# Altium footprint library Lib Marius.PcbLib: 393 footprints (part 8 of 25)
Each footprint in its own frame and in the unit in brackets; x right, y up, seen from the top. Pads: shape width x height; smd on the part's side, far side on the other; paste and mask are expansions set on the pad; w line width, h text height; cw(c..) or ccw(c..) is an arc to the next point about the centre after c.
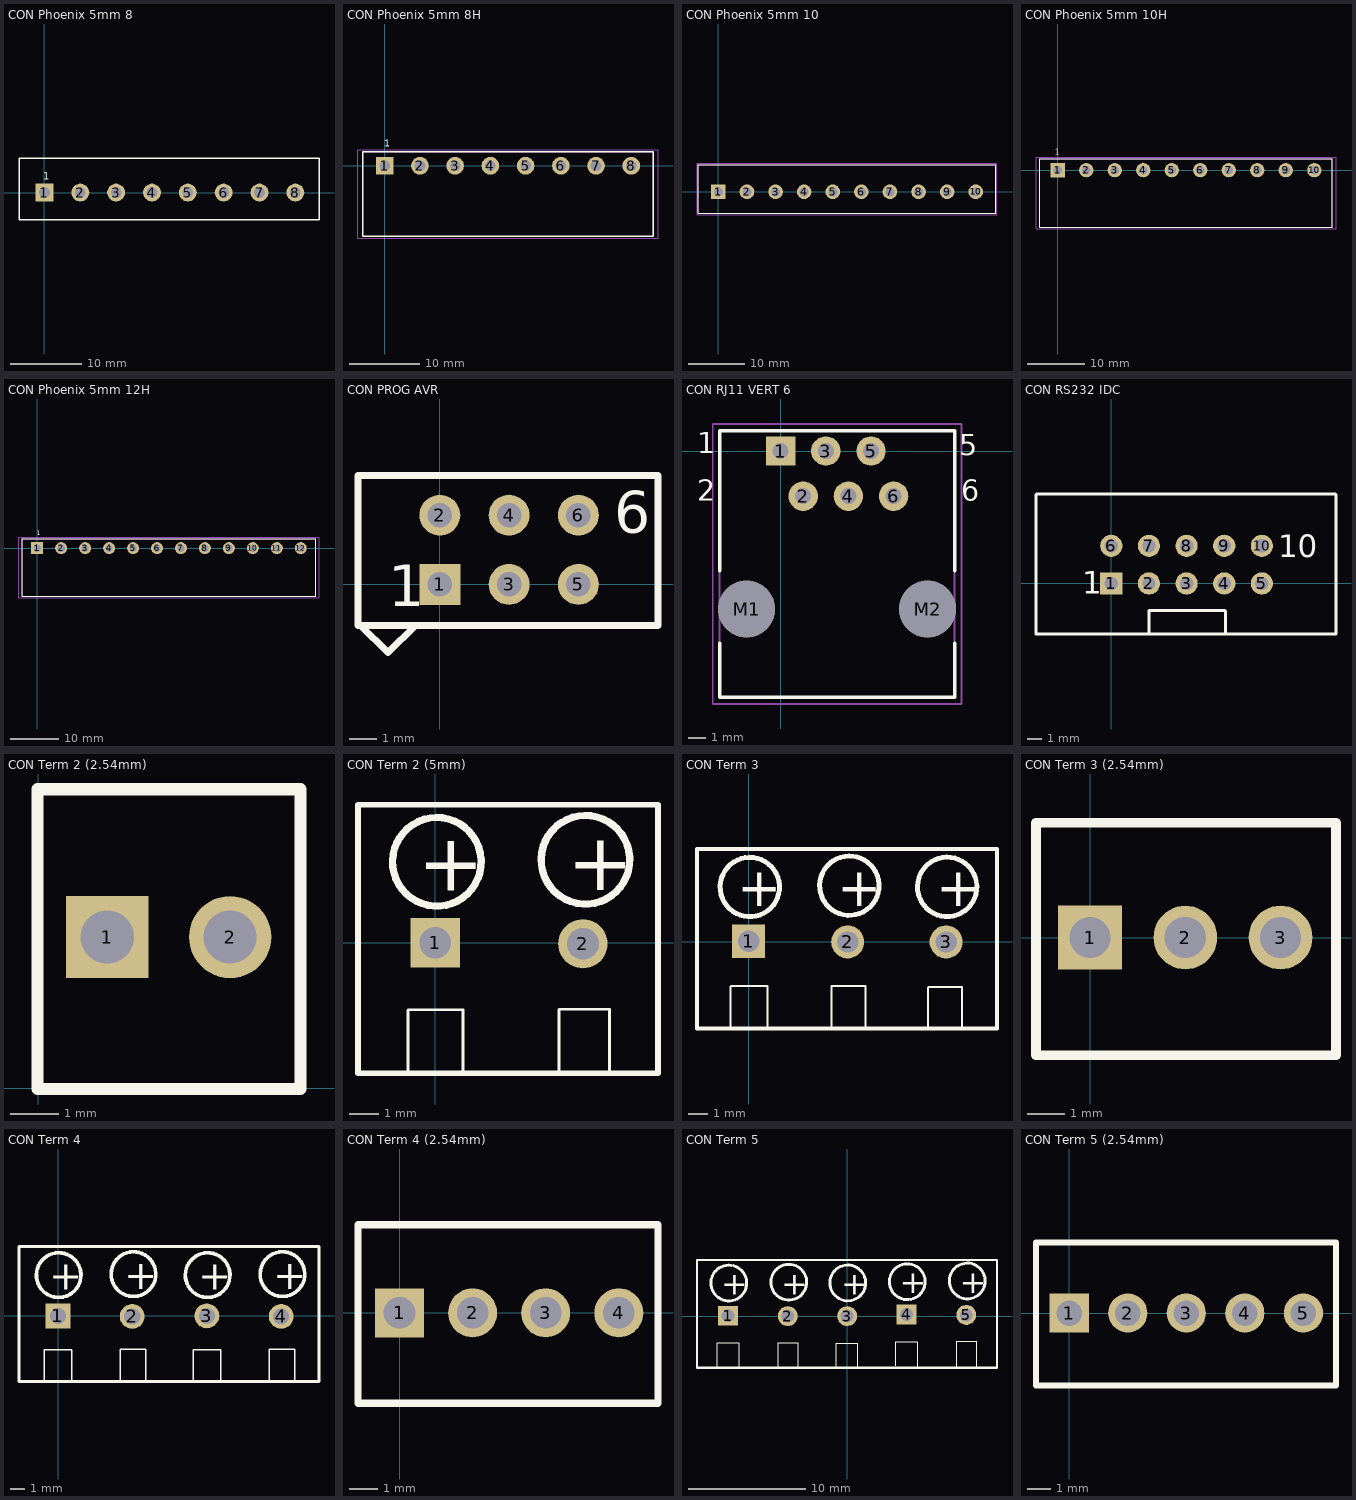
[diagram p7: the footprints below, top view; thin cyan lines are the x and y axes]

## CON Phoenix 5mm 8 [mm] "Connector, Header, 8way, 5mm pitch"
height 8.6
pads (8):
  rect 2.5x2.5 hole 1.5: 1(0,0)
  round 2.5 hole 1.5: 2(5,0) 3(10,0) 4(15,0) 5(20,0) 6(25,0) 7(30,0) 8(35,0)
Top Overlay:
  lines w0.2: -3.55,-3.8 -3.55,4.8 38.3,4.8 38.3,-3.8 -3.55,-3.8
  text "1" at -0.2,1.8 h1
Bottom Overlay:
  text "1" at -0.2,1.8 h1

## CON Phoenix 5mm 8H [mm] "Connector, Header, Right angle, 8way, 5mm pitch"
height 8.6
pads (8):
  rect 2.5x2.5 hole 1.5: 1(0,0)
  round 2.5 hole 1.5: 2(5,0) 3(10,0) 4(15,0) 5(20,0) 6(25,0) 7(30,0) 8(35,0)
Top Overlay:
  lines w0.2: -3.1,-10 -3.1,2 38.1,2 38.1,-10 -3.1,-10
  text ".Designator" at 4.4,3.3 h1.5
  text "1" at -0.1,2.7 h1
Bottom Overlay:
  text "1" at -1.4,2.7 h1
Mechanical 13:
  lines w0.1: -3.1,-10 38.1,-10 38.1,2 -3.1,2 -3.1,-10
Mechanical 15:
  lines w0.1: -3.8,-10.3 38.8,-10.3 38.8,2.3 -3.8,2.3 -3.8,-10.3
3D body "Camden_CTB9350_8A.stp": height 8.6, standoff -3.5, extent -3.5,-10 38.5,2

## CON Phoenix 5mm 10 [mm] "Connector, Header, Pluggable, 10WAY VERT BOX 5.08MM"
height 12.1
pads (10):
  rect 2.6x2.6 hole 1.6: 1(0,0)
  round 2.6 hole 1.6: 2(5.08,0) 3(10.16,0) 4(15.24,0) 5(20.32,0) 6(25.4,0) 7(30.48,0) 8(35.56,0) 9(40.64,0) 10(45.72,0)
Top Overlay:
  lines w0.2: -3.55,-3.8 49.25,-3.8 49.25,4.8 -3.55,4.8 -3.55,-3.8
  text ".Designator" at -1.325,5.6 h1.5
Mechanical 13:
  lines w0.1: -3.55,-3.8 49.25,-3.8 49.25,4.8 -3.55,4.8 -3.55,-3.8
Mechanical 15:
  lines w0.1: -3.8,-4.1 49.5,-4.1 49.5,5.1 -3.8,5.1 -3.8,-4.1
3D body "1755817.stp": height 12, standoff -3.9, extent -3.55,-3.8 49.25,4.8

## CON Phoenix 5mm 10H [mm] "Connector, Header, Right angle, 12way, 5mm pitch"
height 8.6
pads (10):
  rect 2.5x2.5 hole 1.5: 1(0,0)
  round 2.5 hole 1.5: 2(5,0) 3(10,0) 4(15,0) 5(20,0) 6(25,0) 7(30,0) 8(35,0) 9(40,0) 10(45,0)
Top Overlay:
  lines w0.2: -3.1,-10 -3.1,2 48.1,2 48.1,-10 -3.1,-10
  text ".Designator" at 4.7,3.6 h1.5
  text "1" at -0.5,2.7 h1
Bottom Overlay:
  text "1" at -0.5,2.7 h1
Mechanical 13:
  lines w0.1: -3.1,-10 48.1,-10 48.1,2 -3.1,2 -3.1,-10
Mechanical 15:
  lines w0.1: -3.8,-10.3 48.8,-10.3 48.8,2.3 -3.8,2.3 -3.8,-10.3
3D body "Camden_CTB9350_10A.stp": height 8.6, standoff -3.5, extent -3.5,-10 48.5,2

## CON Phoenix 5mm 12H [mm] "Connector, Header, Right angle, 12way, 5mm pitch"
height 8.6
pads (12):
  rect 2.5x2.5 hole 1.5: 1(0,0)
  round 2.5 hole 1.5: 2(5,0) 3(10,0) 4(15,0) 5(20,0) 6(25,0) 7(30,0) 8(35,0) 9(40,0) 10(45,0) 11(50,0) 12(55,0)
Top Overlay:
  lines w0.2: -3.1,-10 -3.1,2 58.1,2 58.1,-10 -3.1,-10
  text ".Designator" at 4.4,3.3 h1.5
  text "1" at -0.1,2.7 h1
Bottom Overlay:
  text "1" at -1.4,2.7 h1
Mechanical 13:
  lines w0.1: -3.1,-10 58.1,-10 58.1,2 -3.1,2 -3.1,-10
Mechanical 15:
  lines w0.1: -3.8,-10.3 58.8,-10.3 58.8,2.3 -3.8,2.3 -3.8,-10.3
3D body "Camden_CTB9350_12A.stp": height 8.6, standoff -3.5, extent -3.5,-10 58.5,2

## CON PROG AVR [mm] "Programming Connector"
pads (6):
  rect 1.5x1.5 hole 0.9: 1(0,0)
  round 1.5 hole 0.9: 2(0,2.54) 3(2.54,0) 4(2.54,2.54) 5(5.08,0) 6(5.08,2.54)
Top Overlay:
  lines w0.254: -0.9,-1.5 -1.9,-2.5 ; -3,-1.5 8,-1.5 8,4 -3,4 -3,-1.5 ; -3,-1.5 -2.9,-1.5 -1.9,-2.5 ; -1.9,-2.5 -1.9,-2.5
  text "6" at 6.4,1.9 h1.52
  text "1" at -1.9,-0.8 h1.52
Bottom Overlay:
  text "2" at -1.2,2 h1.27
  text "1" at -1.5,-0.6 h1.27
  text "6" at 7.1,2 h1.27
  text "5" at 7.1,-0.7 h1.27

## CON RJ11 VERT 6 [mil] "Connector, Header, Vertical: Lead Span 2.54mm; Lead Width 0.52; Pin Pitch 2.54; 2x3 Pins"
height 550
pads (8):
  rect 65x65 hole 35.43: 1(0,0)
  round 65 hole 35.43: 2(50,-100) 3(100,0) 4(150,-100) 5(200,0) 6(250,-100)
  round 125 hole 125.98 unplated: M1(-75,-350) M2(325,-350)
Top Overlay:
  lines w7.87: -135,-425 -135,-545 385,-545 385,-425 ; -135,-265 -135,45 385,45 385,-265
  text "5" at 395,-25 h78.74
  text "6" at 400,-125 h78.74
  text "2" at -185,-125 h78.74
  text "1" at -185,-20 h78.74
  text ".Designator" at -75,80 h39.37
Mechanical 13:
  lines w3.94: -135,-545 385,-545 385,45 -135,45 -135,-545
  text "1" at -75,-25 h78.74
Mechanical 15:
  lines w3.94: -150,-560 400,-560 400,60 -150,60 -150,-560
3D body "955032661.stp": height 619.05, standoff -128.98, extent -133.86,-539.37 386.22,54.33

## CON RS232 IDC [mm] "Connector; IDC; 5x2 Position"
pads (10):
  rect 1.5x1.5 hole 0.9: 1(0,0)
  round 1.5 hole 0.9: 2(2.54,0) 3(5.08,0) 4(7.62,0) 5(10.16,0) 6(0,2.54) 7(2.54,2.54) 8(5.08,2.54) 9(7.62,2.54) 10(10.16,2.54)
Top Overlay:
  lines w0.2: -5.073,5.991 -5.073,-3.398 15.162,-3.398 15.162,5.991 15.125,6.027 -5.036,6.027 ; 2.534,-3.398 2.534,-1.834 7.665,-1.834 7.701,-1.87 7.701,-3.362 7.738,-3.398 ; -5.036,6.027 -5.081,5.983 -5.036,6.027
  text "1" at -1.956,-0.706 h1.52
  text "10" at 11.269,1.777 h1.52
Bottom Overlay:
  text "1" at -1.601,-0.588 h1.27
  text "6" at -1.297,2.047 h1.27
  text "10" at 13.261,1.895 h1.27
  text "5" at 12.265,-0.672 h1.27
3D body "IDC-5x2.step": height 8.65, standoff -3.54, extent -5.106,-3.444 15.214,6.03

## CON Term 2 (2.54mm) [mm] "Terminal Block, 2 pin, 2.54mm"
pads (2):
  rect 1.7x1.7 hole 1.1: 1(1.426,3.119)
  round 1.7 hole 1.1: 2(3.966,3.119)
Top Overlay:
  lines w0.254: -0.018,6.179 -0.018,-0.021 5.422,-0.021 5.422,6.176 0.002,6.176

## CON Term 2 (5mm) [mm] "Terminal Block, 2 pin, 5.08mm"
pads (2):
  rect 1.7x1.7 hole 1.1: 1(-0.009,0.003)
  round 1.7 hole 1.1: 2(5.082,-0.033)
Top Overlay:
  lines w0.1: -0.952,-4.387 -0.952,-2.327 -0.931,-2.306 0.955,-2.306 0.955,-4.422 ; 4.254,-4.405 4.254,-2.306 4.271,-2.289 5.993,-2.289 5.993,-4.458
  lines w0.2: -2.671,-4.492 -2.671,4.757 7.67,4.757 7.67,-4.492 -2.671,-4.492
  lines w0.254: 1.572,2.884 ccw(c0.047,2.794) 1.573,2.842 ; 6.694,2.953 ccw(c5.169,2.863) 6.696,2.912
  text "+" at 4.535,1.812 h2
  text "+" at -0.611,1.801 h2
3D body "PCB Term 2Way.stp": height 13.8, standoff -3.5, extent -2.87,-4.7 7.87,5.1

## CON Term 3 [mm] "Terminal Block, 3 pin, 5.08mm"
pads (3):
  rect 1.7x1.7 hole 1.1: 1(0,0.036)
  round 1.7 hole 1.1: 2(5.091,0) 3(10.16,0)
Top Overlay:
  lines w0.1: -0.942,-4.354 -0.942,-2.295 -0.921,-2.274 0.965,-2.274 0.965,-4.39 ; 4.263,-4.372 4.263,-2.274 4.281,-2.256 6.003,-2.256 6.003,-4.425 ; 9.236,-4.433 9.236,-2.335 9.254,-2.317 10.976,-2.317 10.976,-4.486
  lines w0.2: -2.662,-4.459 -2.662,4.79 12.778,4.79 12.778,-4.459 -2.662,-4.459
  lines w0.254: 1.581,2.916 ccw(c0.056,2.827) 1.583,2.875 ; 6.703,2.986 ccw(c5.179,2.896) 6.705,2.944 ; 11.738,2.925 ccw(c10.213,2.835) 11.739,2.883
  text "+" at 4.544,1.845 h2
  text "+" at -0.601,1.833 h2
  text "+" at 9.639,1.845 h2
3D body "PCB Term 3Way.stp": height 13.8, standoff -3.5, extent -2.871,-4.7 12.871,5.1

## CON Term 3 (2.54mm) [mm] "Terminal Block, 3 pin, 2.54mm"
pads (3):
  rect 1.7x1.7 hole 1.1: 1(0,0)
  round 1.7 hole 1.1: 2(2.54,0) 3(5.08,0)
Top Overlay:
  lines w0.254: -1.443,3.06 -1.443,-3.14 6.557,-3.14 6.557,3.06 ; -1.424,3.057 6.555,3.057

## CON Term 4 [mm] "Terminal Block, 4 pin, 5.08mm"
pads (4):
  rect 1.7x1.7 hole 1.1: 1(-0.009,0.003)
  round 1.7 hole 1.1: 2(5.082,-0.033) 3(10.191,0.003) 4(15.282,-0.033)
Top Overlay:
  lines w0.1: -0.952,-4.387 -0.952,-2.327 -0.931,-2.306 0.955,-2.306 0.955,-4.422 ; 4.254,-4.405 4.254,-2.306 4.271,-2.289 5.993,-2.289 5.993,-4.458 ; 9.248,-4.387 9.248,-2.327 9.269,-2.306 11.155,-2.306 11.155,-4.422 ; 14.454,-4.405 14.454,-2.306 14.471,-2.289 16.193,-2.289 16.193,-4.458
  lines w0.2: 7.529,-4.492 17.87,-4.492 17.87,4.757 7.529,4.757 ; 7.67,-4.492 -2.671,-4.492 -2.671,4.757 7.67,4.757
  lines w0.254: 1.572,2.884 ccw(c0.047,2.794) 1.573,2.842 ; 6.694,2.953 ccw(c5.169,2.863) 6.696,2.912 ; 11.772,2.884 ccw(c10.247,2.794) 11.773,2.842 ; 16.894,2.953 ccw(c15.369,2.863) 16.896,2.912
  text "+" at 14.735,1.812 h2
  text "+" at 9.589,1.801 h2
  text "+" at -0.611,1.801 h2
  text "+" at 4.535,1.812 h2
3D body "PCB Term 4Way.stp": height 13.8, standoff -3.5, extent -2.8,-4.8 17.941,5

## CON Term 4 (2.54mm) [mm] "Terminal Block, 3 pin, 2.54mm"
pads (4):
  rect 1.7x1.7 hole 1.1: 1(0,0)
  round 1.7 hole 1.1: 2(2.54,0) 3(5.08,0) 4(7.62,0)
Top Overlay:
  lines w0.254: -1.443,3.06 -1.443,-3.14 8.982,-3.14 8.982,3.057 -1.424,3.057
3D body "OSTVN04A150--3DModel-STEP-56544.STEP": height 8.25, standoff -3.75, extent -1.38,-3.6 9.18,2.9

## CON Term 5 [mm] "Terminal Block, 3 pin, 5.08mm"
pads (5):
  rect 1.7x1.7 hole 1.1: 1(-10.154,0.04) 4(5.086,0.146)
  round 1.7 hole 1.1: 2(-5.063,0.004) 3(0.006,0.004) 5(10.177,0.11)
Top Overlay:
  lines w0.1: -11.096,-4.35 -11.096,-2.29 -11.075,-2.269 -9.189,-2.269 -9.189,-4.385 ; -5.891,-4.368 -5.891,-2.269 -5.873,-2.252 -4.151,-2.252 -4.151,-4.421 ; -0.917,-4.429 -0.917,-2.33 -0.9,-2.313 0.9,-2.313 ; 0.9,-4.3 0.9,-2.331 ; 4.143,-4.244 4.143,-2.185 4.164,-2.164 6.05,-2.164 6.05,-4.28 ; 9.349,-4.262 9.349,-2.164 9.366,-2.146 11.088,-2.146 11.088,-4.315
  lines w0.2: -12.815,-4.4 12.8,-4.4 12.8,4.8 -12.815,4.8 -12.815,-4.4
  lines w0.254: -8.573,2.921 ccw(c-10.097,2.831) -8.571,2.879 ; -3.45,2.99 ccw(c-4.975,2.9) -3.448,2.949 ; 1.584,2.929 ccw(c0.059,2.839) 1.586,2.888 ; 6.667,3.027 ccw(c5.142,2.937) 6.669,2.985 ; 11.789,3.096 ccw(c10.264,3.006) 11.791,3.054
  text "+" at 4.484,1.944 h2
  text "+" at 9.63,1.955 h2
  text "+" at -5.609,1.849 h2
  text "+" at -10.755,1.838 h2
  text "+" at -0.514,1.849 h2
3D body "Con 2 Way PCB Screw Terminal Block 5_08mm.STEP": height 15.2, standoff -3.5, extent 2.46,-4.264 12.62,4.736
3D body "Con 3 Way PCB Screw Terminal Block 5_08mm.STEP": height 15.2, standoff -3.5, extent -12.715,-4.28 2.525,4.72

## CON Term 5 (2.54mm) [mm] "Terminal Block, 3 pin, 2.54mm"
pads (5):
  rect 1.7x1.7 hole 1.1: 1(0,0)
  round 1.7 hole 1.1: 2(2.54,0) 3(5.08,0) 4(7.62,0) 5(10.16,0)
Top Overlay:
  lines w0.254: -1.443,3.06 -1.443,-3.14 11.577,-3.14 11.577,3.057 -1.424,3.057